# Altium integrated library Linear Technology PMIC-Switching Reg LTC1174-LTC3901.IntLib: 2647 symbols (part 88 of 310)
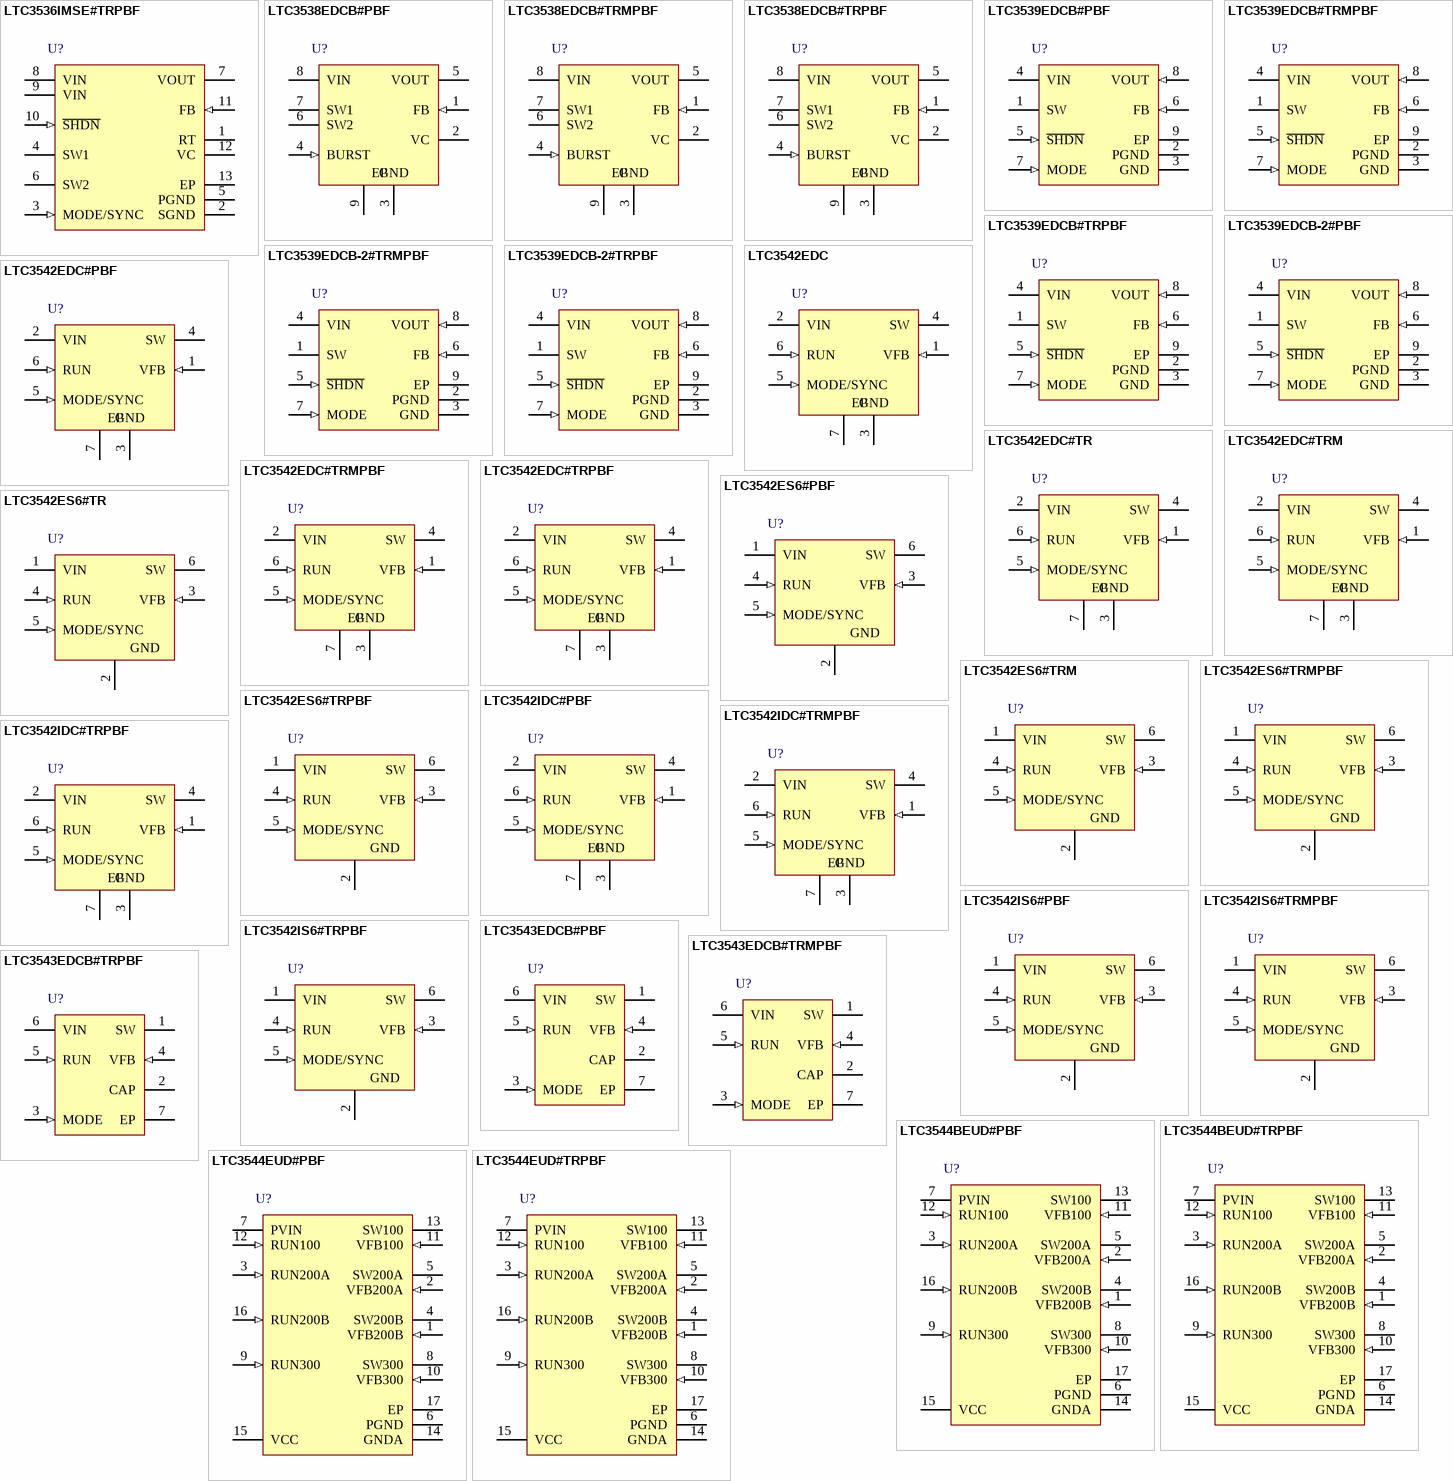
[diagram p165: symbols LTC3536IMSE#TRPBF to LTC3544EUD#TRPBF]

## LTC3542EDC#PBF
designator U?
500 mA, 2.25 MHz Synchronous Step-Down DC/DC Converter, 6-pin SON (DC6-6), -40 to 85 degC, Pb-Free; Manufacturer: Linear Technology; PartNumber: LTC3542EDC#PBF; Number of Outputs: 1; PackageReference: DC6-6; PackageDescription: 6-Pin Plastic DFN, Body 2 x 2 mm, Pitch 0.5 mm; Supplier 1: Farnell; Supplier Part Number 1: 2308147; RoHS: TRUE; Code_JEDEC: MO-229
footprint LT-DC6-6_V (SON, 6-Leads, Body 2x2mm, Pitch 0.5mm, Thermal Pad 1.42x0.61mm)
pins: 1 VFB (in) "Output Feedback Pin. Receives the feedback voltage from an external resistive divider across the output. Nominal voltage for this pin is 0.6V.", 2 VIN (power) "Power Supply Pin. Must be closely decoupled to GND.", 3 GND (power) "Ground Pin.", 4 SW (power) "Switch Node Connection to Inductor. This pin connects to the drains of the internal main and synchronous power MOSFET switches.", 5 MODE/SYNC (in) "Mode Selection and Oscillator Synchronization Pin. This pin controls the operation of the device. When tied to GND or VIN, Burst Mode operation or pulse skipping mode is selected, respectively. Do not float this pin. The (See Datasheet)", 6 RUN (in) "Converter Enable Pin. Forcing this pin above 1.5V enables this part, while forcing it below 0.3V causes the device to shut down. In shutdown, all functions are disabled drawing <1uA supply current. This pin must be driven; (See Datasheet)", 7 EP (power) "Exposed Pad. The Exposed Pad is ground. It must be soldered to PCB ground to provide both electrical contact and optimum thermal performance."

## LTC3542EDC#TR
designator U?
500 mA, 2.25 MHz Synchronous Step-Down DC/DC Converter, 6-pin SON (DC6-6), -40 to 85 degC, Tape and Reel; Manufacturer: Linear Technology; PartNumber: LTC3542EDC#TR; Number of Outputs: 1; PackageReference: DC6-6; PackageDescription: 6-Pin Plastic DFN, Body 2 x 2 mm, Pitch 0.5 mm; RoHS: FALSE; Code_JEDEC: MO-229
footprint LT-DC6-6_V (SON, 6-Leads, Body 2x2mm, Pitch 0.5mm, Thermal Pad 1.42x0.61mm)
pins: 1 VFB (in) "Output Feedback Pin. Receives the feedback voltage from an external resistive divider across the output. Nominal voltage for this pin is 0.6V.", 2 VIN (power) "Power Supply Pin. Must be closely decoupled to GND.", 3 GND (power) "Ground Pin.", 4 SW (power) "Switch Node Connection to Inductor. This pin connects to the drains of the internal main and synchronous power MOSFET switches.", 5 MODE/SYNC (in) "Mode Selection and Oscillator Synchronization Pin. This pin controls the operation of the device. When tied to GND or VIN, Burst Mode operation or pulse skipping mode is selected, respectively. Do not float this pin. The (See Datasheet)", 6 RUN (in) "Converter Enable Pin. Forcing this pin above 1.5V enables this part, while forcing it below 0.3V causes the device to shut down. In shutdown, all functions are disabled drawing <1uA supply current. This pin must be driven; (See Datasheet)", 7 EP (power) "Exposed Pad. The Exposed Pad is ground. It must be soldered to PCB ground to provide both electrical contact and optimum thermal performance."

## LTC3542EDC#TRM
designator U?
500 mA, 2.25 MHz Synchronous Step-Down DC/DC Converter, 6-pin SON (DC6-6), -40 to 85 degC, Mini Tape and Reel; Manufacturer: Linear Technology; PartNumber: LTC3542EDC#TRM; Number of Outputs: 1; PackageReference: DC6-6; PackageDescription: 6-Pin Plastic DFN, Body 2 x 2 mm, Pitch 0.5 mm; RoHS: FALSE; Code_JEDEC: MO-229
footprint LT-DC6-6_V (SON, 6-Leads, Body 2x2mm, Pitch 0.5mm, Thermal Pad 1.42x0.61mm)
pins: 1 VFB (in) "Output Feedback Pin. Receives the feedback voltage from an external resistive divider across the output. Nominal voltage for this pin is 0.6V.", 2 VIN (power) "Power Supply Pin. Must be closely decoupled to GND.", 3 GND (power) "Ground Pin.", 4 SW (power) "Switch Node Connection to Inductor. This pin connects to the drains of the internal main and synchronous power MOSFET switches.", 5 MODE/SYNC (in) "Mode Selection and Oscillator Synchronization Pin. This pin controls the operation of the device. When tied to GND or VIN, Burst Mode operation or pulse skipping mode is selected, respectively. Do not float this pin. The (See Datasheet)", 6 RUN (in) "Converter Enable Pin. Forcing this pin above 1.5V enables this part, while forcing it below 0.3V causes the device to shut down. In shutdown, all functions are disabled drawing <1uA supply current. This pin must be driven; (See Datasheet)", 7 EP (power) "Exposed Pad. The Exposed Pad is ground. It must be soldered to PCB ground to provide both electrical contact and optimum thermal performance."

## LTC3542EDC#TRMPBF
designator U?
500 mA, 2.25 MHz Synchronous Step-Down DC/DC Converter, 6-pin SON (DC6-6), -40 to 85 degC, Pb-Free, Mini Tape and Reel; Manufacturer: Linear Technology; PartNumber: LTC3542EDC#TRMPBF; Number of Outputs: 1; PackageReference: DC6-6; PackageDescription: 6-Pin Plastic DFN, Body 2 x 2 mm, Pitch 0.5 mm; Supplier 1: Digi-Key; Supplier Part Number 1: LTC3542EDC#TRMPBFTR-ND; RoHS: TRUE; Code_JEDEC: MO-229
footprint LT-DC6-6_V (SON, 6-Leads, Body 2x2mm, Pitch 0.5mm, Thermal Pad 1.42x0.61mm)
pins: 1 VFB (in) "Output Feedback Pin. Receives the feedback voltage from an external resistive divider across the output. Nominal voltage for this pin is 0.6V.", 2 VIN (power) "Power Supply Pin. Must be closely decoupled to GND.", 3 GND (power) "Ground Pin.", 4 SW (power) "Switch Node Connection to Inductor. This pin connects to the drains of the internal main and synchronous power MOSFET switches.", 5 MODE/SYNC (in) "Mode Selection and Oscillator Synchronization Pin. This pin controls the operation of the device. When tied to GND or VIN, Burst Mode operation or pulse skipping mode is selected, respectively. Do not float this pin. The (See Datasheet)", 6 RUN (in) "Converter Enable Pin. Forcing this pin above 1.5V enables this part, while forcing it below 0.3V causes the device to shut down. In shutdown, all functions are disabled drawing <1uA supply current. This pin must be driven; (See Datasheet)", 7 EP (power) "Exposed Pad. The Exposed Pad is ground. It must be soldered to PCB ground to provide both electrical contact and optimum thermal performance."

## LTC3542EDC#TRPBF
designator U?
500 mA, 2.25 MHz Synchronous Step-Down DC/DC Converter, 6-pin SON (DC6-6), -40 to 85 degC, Pb-Free, Tape and Reel; Manufacturer: Linear Technology; PartNumber: LTC3542EDC#TRPBF; Number of Outputs: 1; PackageReference: DC6-6; PackageDescription: 6-Pin Plastic DFN, Body 2 x 2 mm, Pitch 0.5 mm; Supplier 1: Digi-Key; Supplier Part Number 1: LTC3542EDC#TRPBF-ND; RoHS: TRUE; Code_JEDEC: MO-229
footprint LT-DC6-6_V (SON, 6-Leads, Body 2x2mm, Pitch 0.5mm, Thermal Pad 1.42x0.61mm)
pins: 1 VFB (in) "Output Feedback Pin. Receives the feedback voltage from an external resistive divider across the output. Nominal voltage for this pin is 0.6V.", 2 VIN (power) "Power Supply Pin. Must be closely decoupled to GND.", 3 GND (power) "Ground Pin.", 4 SW (power) "Switch Node Connection to Inductor. This pin connects to the drains of the internal main and synchronous power MOSFET switches.", 5 MODE/SYNC (in) "Mode Selection and Oscillator Synchronization Pin. This pin controls the operation of the device. When tied to GND or VIN, Burst Mode operation or pulse skipping mode is selected, respectively. Do not float this pin. The (See Datasheet)", 6 RUN (in) "Converter Enable Pin. Forcing this pin above 1.5V enables this part, while forcing it below 0.3V causes the device to shut down. In shutdown, all functions are disabled drawing <1uA supply current. This pin must be driven; (See Datasheet)", 7 EP (power) "Exposed Pad. The Exposed Pad is ground. It must be soldered to PCB ground to provide both electrical contact and optimum thermal performance."

## LTC3542ES6#PBF
designator U?
500 mA, 2.25 MHz Synchronous Step-Down DC/DC Converter, 6-pin SOT23 (S6-6), -40 to 85 degC, Pb-Free; Manufacturer: Linear Technology; PartNumber: LTC3542ES6#PBF; Number of Outputs: 1; PackageReference: S6-6; PackageDescription: 6-Pin Plastic TSOT-23, Body 2.9 x 1.63 mm, Pitch 0.95 mm; Supplier 1: Farnell; Supplier Part Number 1: 2308148; RoHS: TRUE; Code_JEDEC: MO-193
footprint LT-S6-6-TSOT-23_N (SOT23, 6-Leads, Body 2.9x1.75mm, Pitch 0.95mm, IPC Medium Density)
footprint LT-S6-6-TSOT-23_L (SOT23, 6-Leads, Body 2.9x1.75mm, Pitch 0.95mm, IPC High Density)
footprint LT-S6-6-TSOT-23_M (SOT23, 6-Leads, Body 2.9x1.75mm, Pitch 0.95mm, IPC Low Density)
pins: 1 VIN (power) "Power Supply Pin. Must be closely decoupled to GND.", 2 GND (power) "Ground Pin.", 3 VFB (in) "Output Feedback Pin. Receives the feedback voltage from an external resistive divider across the output. Nominal voltage for this pin is 0.6V.", 4 RUN (in) "Converter Enable Pin. Forcing this pin above 1.5V enables this part, while forcing it below 0.3V causes the device to shut down. In shutdown, all functions are disabled drawing <1uA supply current. This pin must be driven; (See Datasheet)", 5 MODE/SYNC (in) "Mode Selection and Oscillator Synchronization Pin. This pin controls the operation of the device. When tied to GND or VIN, Burst Mode operation or pulse skipping mode is selected, respectively. Do not float this pin. The (See Datasheet)", 6 SW (power) "Switch Node Connection to Inductor. This pin connects to the drains of the internal main and synchronous power MOSFET switches."

## LTC3542ES6#TR
designator U?
500 mA, 2.25 MHz Synchronous Step-Down DC/DC Converter, 6-pin SOT23 (S6-6), -40 to 85 degC, Tape and Reel; Manufacturer: Linear Technology; PartNumber: LTC3542ES6#TR; Number of Outputs: 1; PackageReference: S6-6; PackageDescription: 6-Pin Plastic TSOT-23, Body 2.9 x 1.63 mm, Pitch 0.95 mm; RoHS: FALSE; Code_JEDEC: MO-193
footprint LT-S6-6-TSOT-23_N (SOT23, 6-Leads, Body 2.9x1.75mm, Pitch 0.95mm, IPC Medium Density)
footprint LT-S6-6-TSOT-23_L (SOT23, 6-Leads, Body 2.9x1.75mm, Pitch 0.95mm, IPC High Density)
footprint LT-S6-6-TSOT-23_M (SOT23, 6-Leads, Body 2.9x1.75mm, Pitch 0.95mm, IPC Low Density)
pins: 1 VIN (power) "Power Supply Pin. Must be closely decoupled to GND.", 2 GND (power) "Ground Pin.", 3 VFB (in) "Output Feedback Pin. Receives the feedback voltage from an external resistive divider across the output. Nominal voltage for this pin is 0.6V.", 4 RUN (in) "Converter Enable Pin. Forcing this pin above 1.5V enables this part, while forcing it below 0.3V causes the device to shut down. In shutdown, all functions are disabled drawing <1uA supply current. This pin must be driven; (See Datasheet)", 5 MODE/SYNC (in) "Mode Selection and Oscillator Synchronization Pin. This pin controls the operation of the device. When tied to GND or VIN, Burst Mode operation or pulse skipping mode is selected, respectively. Do not float this pin. The (See Datasheet)", 6 SW (power) "Switch Node Connection to Inductor. This pin connects to the drains of the internal main and synchronous power MOSFET switches."

## LTC3542ES6#TRM
designator U?
500 mA, 2.25 MHz Synchronous Step-Down DC/DC Converter, 6-pin SOT23 (S6-6), -40 to 85 degC, Mini Tape and Reel; Manufacturer: Linear Technology; PartNumber: LTC3542ES6#TRM; Number of Outputs: 1; PackageReference: S6-6; PackageDescription: 6-Pin Plastic TSOT-23, Body 2.9 x 1.63 mm, Pitch 0.95 mm; RoHS: FALSE; Code_JEDEC: MO-193
footprint LT-S6-6-TSOT-23_N (SOT23, 6-Leads, Body 2.9x1.75mm, Pitch 0.95mm, IPC Medium Density)
footprint LT-S6-6-TSOT-23_L (SOT23, 6-Leads, Body 2.9x1.75mm, Pitch 0.95mm, IPC High Density)
footprint LT-S6-6-TSOT-23_M (SOT23, 6-Leads, Body 2.9x1.75mm, Pitch 0.95mm, IPC Low Density)
pins: 1 VIN (power) "Power Supply Pin. Must be closely decoupled to GND.", 2 GND (power) "Ground Pin.", 3 VFB (in) "Output Feedback Pin. Receives the feedback voltage from an external resistive divider across the output. Nominal voltage for this pin is 0.6V.", 4 RUN (in) "Converter Enable Pin. Forcing this pin above 1.5V enables this part, while forcing it below 0.3V causes the device to shut down. In shutdown, all functions are disabled drawing <1uA supply current. This pin must be driven; (See Datasheet)", 5 MODE/SYNC (in) "Mode Selection and Oscillator Synchronization Pin. This pin controls the operation of the device. When tied to GND or VIN, Burst Mode operation or pulse skipping mode is selected, respectively. Do not float this pin. The (See Datasheet)", 6 SW (power) "Switch Node Connection to Inductor. This pin connects to the drains of the internal main and synchronous power MOSFET switches."

## LTC3542ES6#TRMPBF
designator U?
500 mA, 2.25 MHz Synchronous Step-Down DC/DC Converter, 6-pin SOT23 (S6-6), -40 to 85 degC, Pb-Free, Mini Tape and Reel; Manufacturer: Linear Technology; PartNumber: LTC3542ES6#TRMPBF; Number of Outputs: 1; PackageReference: S6-6; PackageDescription: 6-Pin Plastic TSOT-23, Body 2.9 x 1.63 mm, Pitch 0.95 mm; Supplier 1: Digi-Key; Supplier Part Number 1: LTC3542ES6#TRMPBFTR-ND; RoHS: TRUE; Code_JEDEC: MO-193
footprint LT-S6-6-TSOT-23_N (SOT23, 6-Leads, Body 2.9x1.75mm, Pitch 0.95mm, IPC Medium Density)
footprint LT-S6-6-TSOT-23_L (SOT23, 6-Leads, Body 2.9x1.75mm, Pitch 0.95mm, IPC High Density)
footprint LT-S6-6-TSOT-23_M (SOT23, 6-Leads, Body 2.9x1.75mm, Pitch 0.95mm, IPC Low Density)
pins: 1 VIN (power) "Power Supply Pin. Must be closely decoupled to GND.", 2 GND (power) "Ground Pin.", 3 VFB (in) "Output Feedback Pin. Receives the feedback voltage from an external resistive divider across the output. Nominal voltage for this pin is 0.6V.", 4 RUN (in) "Converter Enable Pin. Forcing this pin above 1.5V enables this part, while forcing it below 0.3V causes the device to shut down. In shutdown, all functions are disabled drawing <1uA supply current. This pin must be driven; (See Datasheet)", 5 MODE/SYNC (in) "Mode Selection and Oscillator Synchronization Pin. This pin controls the operation of the device. When tied to GND or VIN, Burst Mode operation or pulse skipping mode is selected, respectively. Do not float this pin. The (See Datasheet)", 6 SW (power) "Switch Node Connection to Inductor. This pin connects to the drains of the internal main and synchronous power MOSFET switches."

## LTC3542ES6#TRPBF
designator U?
500 mA, 2.25 MHz Synchronous Step-Down DC/DC Converter, 6-pin SOT23 (S6-6), -40 to 85 degC, Pb-Free, Tape and Reel; Manufacturer: Linear Technology; PartNumber: LTC3542ES6#TRPBF; Number of Outputs: 1; PackageReference: S6-6; PackageDescription: 6-Pin Plastic TSOT-23, Body 2.9 x 1.63 mm, Pitch 0.95 mm; Supplier 1: Digi-Key; Supplier Part Number 1: LTC3542ES6#TRPBF-ND; RoHS: TRUE; Code_JEDEC: MO-193
footprint LT-S6-6-TSOT-23_N (SOT23, 6-Leads, Body 2.9x1.75mm, Pitch 0.95mm, IPC Medium Density)
footprint LT-S6-6-TSOT-23_L (SOT23, 6-Leads, Body 2.9x1.75mm, Pitch 0.95mm, IPC High Density)
footprint LT-S6-6-TSOT-23_M (SOT23, 6-Leads, Body 2.9x1.75mm, Pitch 0.95mm, IPC Low Density)
pins: 1 VIN (power) "Power Supply Pin. Must be closely decoupled to GND.", 2 GND (power) "Ground Pin.", 3 VFB (in) "Output Feedback Pin. Receives the feedback voltage from an external resistive divider across the output. Nominal voltage for this pin is 0.6V.", 4 RUN (in) "Converter Enable Pin. Forcing this pin above 1.5V enables this part, while forcing it below 0.3V causes the device to shut down. In shutdown, all functions are disabled drawing <1uA supply current. This pin must be driven; (See Datasheet)", 5 MODE/SYNC (in) "Mode Selection and Oscillator Synchronization Pin. This pin controls the operation of the device. When tied to GND or VIN, Burst Mode operation or pulse skipping mode is selected, respectively. Do not float this pin. The (See Datasheet)", 6 SW (power) "Switch Node Connection to Inductor. This pin connects to the drains of the internal main and synchronous power MOSFET switches."

## LTC3542IDC#PBF
designator U?
500 mA, 2.25 MHz Synchronous Step-Down DC/DC Converter, 6-pin SON (DC6-6), -40 to 125 degC, Pb-Free; Manufacturer: Linear Technology; PartNumber: LTC3542IDC#PBF; Number of Outputs: 1; PackageReference: DC6-6; PackageDescription: 6-Pin Plastic DFN, Body 2 x 2 mm, Pitch 0.5 mm; Supplier 1: Newark; Supplier Part Number 1: 78T3205; RoHS: TRUE; Code_JEDEC: MO-229
footprint LT-DC6-6_V (SON, 6-Leads, Body 2x2mm, Pitch 0.5mm, Thermal Pad 1.42x0.61mm)
pins: 1 VFB (in) "Output Feedback Pin. Receives the feedback voltage from an external resistive divider across the output. Nominal voltage for this pin is 0.6V.", 2 VIN (power) "Power Supply Pin. Must be closely decoupled to GND.", 3 GND (power) "Ground Pin.", 4 SW (power) "Switch Node Connection to Inductor. This pin connects to the drains of the internal main and synchronous power MOSFET switches.", 5 MODE/SYNC (in) "Mode Selection and Oscillator Synchronization Pin. This pin controls the operation of the device. When tied to GND or VIN, Burst Mode operation or pulse skipping mode is selected, respectively. Do not float this pin. The (See Datasheet)", 6 RUN (in) "Converter Enable Pin. Forcing this pin above 1.5V enables this part, while forcing it below 0.3V causes the device to shut down. In shutdown, all functions are disabled drawing <1uA supply current. This pin must be driven; (See Datasheet)", 7 EP (power) "Exposed Pad. The Exposed Pad is ground. It must be soldered to PCB ground to provide both electrical contact and optimum thermal performance."

## LTC3542IDC#TRMPBF
designator U?
500 mA, 2.25 MHz Synchronous Step-Down DC/DC Converter, 6-pin SON (DC6-6), -40 to 125 degC, Pb-Free, Mini Tape and Reel; Manufacturer: Linear Technology; PartNumber: LTC3542IDC#TRMPBF; Number of Outputs: 1; PackageReference: DC6-6; PackageDescription: 6-Pin Plastic DFN, Body 2 x 2 mm, Pitch 0.5 mm; Supplier 1: Digi-Key; Supplier Part Number 1: LTC3542IDC#TRMPBF-ND; RoHS: TRUE; Code_JEDEC: MO-229
footprint LT-DC6-6_V (SON, 6-Leads, Body 2x2mm, Pitch 0.5mm, Thermal Pad 1.42x0.61mm)
pins: 1 VFB (in) "Output Feedback Pin. Receives the feedback voltage from an external resistive divider across the output. Nominal voltage for this pin is 0.6V.", 2 VIN (power) "Power Supply Pin. Must be closely decoupled to GND.", 3 GND (power) "Ground Pin.", 4 SW (power) "Switch Node Connection to Inductor. This pin connects to the drains of the internal main and synchronous power MOSFET switches.", 5 MODE/SYNC (in) "Mode Selection and Oscillator Synchronization Pin. This pin controls the operation of the device. When tied to GND or VIN, Burst Mode operation or pulse skipping mode is selected, respectively. Do not float this pin. The (See Datasheet)", 6 RUN (in) "Converter Enable Pin. Forcing this pin above 1.5V enables this part, while forcing it below 0.3V causes the device to shut down. In shutdown, all functions are disabled drawing <1uA supply current. This pin must be driven; (See Datasheet)", 7 EP (power) "Exposed Pad. The Exposed Pad is ground. It must be soldered to PCB ground to provide both electrical contact and optimum thermal performance."

## LTC3542IDC#TRPBF
designator U?
500 mA, 2.25 MHz Synchronous Step-Down DC/DC Converter, 6-pin SON (DC6-6), -40 to 125 degC, Pb-Free, Tape and Reel; Manufacturer: Linear Technology; PartNumber: LTC3542IDC#TRPBF; Number of Outputs: 1; PackageReference: DC6-6; PackageDescription: 6-Pin Plastic DFN, Body 2 x 2 mm, Pitch 0.5 mm; Supplier 1: Digi-Key; Supplier Part Number 1: LTC3542IDC#TRPBF-ND; RoHS: TRUE; Code_JEDEC: MO-229
footprint LT-DC6-6_V (SON, 6-Leads, Body 2x2mm, Pitch 0.5mm, Thermal Pad 1.42x0.61mm)
pins: 1 VFB (in) "Output Feedback Pin. Receives the feedback voltage from an external resistive divider across the output. Nominal voltage for this pin is 0.6V.", 2 VIN (power) "Power Supply Pin. Must be closely decoupled to GND.", 3 GND (power) "Ground Pin.", 4 SW (power) "Switch Node Connection to Inductor. This pin connects to the drains of the internal main and synchronous power MOSFET switches.", 5 MODE/SYNC (in) "Mode Selection and Oscillator Synchronization Pin. This pin controls the operation of the device. When tied to GND or VIN, Burst Mode operation or pulse skipping mode is selected, respectively. Do not float this pin. The (See Datasheet)", 6 RUN (in) "Converter Enable Pin. Forcing this pin above 1.5V enables this part, while forcing it below 0.3V causes the device to shut down. In shutdown, all functions are disabled drawing <1uA supply current. This pin must be driven; (See Datasheet)", 7 EP (power) "Exposed Pad. The Exposed Pad is ground. It must be soldered to PCB ground to provide both electrical contact and optimum thermal performance."

## LTC3542IS6#PBF
designator U?
500 mA, 2.25 MHz Synchronous Step-Down DC/DC Converter, 6-pin SOT23 (S6-6), -40 to 125 degC, Pb-Free; Manufacturer: Linear Technology; PartNumber: LTC3542IS6#PBF; Number of Outputs: 1; PackageReference: S6-6; PackageDescription: 6-Pin Plastic TSOT-23, Body 2.9 x 1.63 mm, Pitch 0.95 mm; RoHS: TRUE; Code_JEDEC: MO-193
footprint LT-S6-6-TSOT-23_N (SOT23, 6-Leads, Body 2.9x1.75mm, Pitch 0.95mm, IPC Medium Density)
footprint LT-S6-6-TSOT-23_L (SOT23, 6-Leads, Body 2.9x1.75mm, Pitch 0.95mm, IPC High Density)
footprint LT-S6-6-TSOT-23_M (SOT23, 6-Leads, Body 2.9x1.75mm, Pitch 0.95mm, IPC Low Density)
pins: 1 VIN (power) "Power Supply Pin. Must be closely decoupled to GND.", 2 GND (power) "Ground Pin.", 3 VFB (in) "Output Feedback Pin. Receives the feedback voltage from an external resistive divider across the output. Nominal voltage for this pin is 0.6V.", 4 RUN (in) "Converter Enable Pin. Forcing this pin above 1.5V enables this part, while forcing it below 0.3V causes the device to shut down. In shutdown, all functions are disabled drawing <1uA supply current. This pin must be driven; (See Datasheet)", 5 MODE/SYNC (in) "Mode Selection and Oscillator Synchronization Pin. This pin controls the operation of the device. When tied to GND or VIN, Burst Mode operation or pulse skipping mode is selected, respectively. Do not float this pin. The (See Datasheet)", 6 SW (power) "Switch Node Connection to Inductor. This pin connects to the drains of the internal main and synchronous power MOSFET switches."

## LTC3542IS6#TRMPBF
designator U?
500 mA, 2.25 MHz Synchronous Step-Down DC/DC Converter, 6-pin SOT23 (S6-6), -40 to 125 degC, Pb-Free, Mini Tape and Reel; Manufacturer: Linear Technology; PartNumber: LTC3542IS6#TRMPBF; Number of Outputs: 1; PackageReference: S6-6; PackageDescription: 6-Pin Plastic TSOT-23, Body 2.9 x 1.63 mm, Pitch 0.95 mm; Supplier 1: Digi-Key; Supplier Part Number 1: LTC3542IS6#TRMPBF-ND; RoHS: TRUE; Code_JEDEC: MO-193
footprint LT-S6-6-TSOT-23_N (SOT23, 6-Leads, Body 2.9x1.75mm, Pitch 0.95mm, IPC Medium Density)
footprint LT-S6-6-TSOT-23_L (SOT23, 6-Leads, Body 2.9x1.75mm, Pitch 0.95mm, IPC High Density)
footprint LT-S6-6-TSOT-23_M (SOT23, 6-Leads, Body 2.9x1.75mm, Pitch 0.95mm, IPC Low Density)
pins: 1 VIN (power) "Power Supply Pin. Must be closely decoupled to GND.", 2 GND (power) "Ground Pin.", 3 VFB (in) "Output Feedback Pin. Receives the feedback voltage from an external resistive divider across the output. Nominal voltage for this pin is 0.6V.", 4 RUN (in) "Converter Enable Pin. Forcing this pin above 1.5V enables this part, while forcing it below 0.3V causes the device to shut down. In shutdown, all functions are disabled drawing <1uA supply current. This pin must be driven; (See Datasheet)", 5 MODE/SYNC (in) "Mode Selection and Oscillator Synchronization Pin. This pin controls the operation of the device. When tied to GND or VIN, Burst Mode operation or pulse skipping mode is selected, respectively. Do not float this pin. The (See Datasheet)", 6 SW (power) "Switch Node Connection to Inductor. This pin connects to the drains of the internal main and synchronous power MOSFET switches."

## LTC3542IS6#TRPBF
designator U?
500 mA, 2.25 MHz Synchronous Step-Down DC/DC Converter, 6-pin SOT23 (S6-6), -40 to 125 degC, Pb-Free, Tape and Reel; Manufacturer: Linear Technology; PartNumber: LTC3542IS6#TRPBF; Number of Outputs: 1; PackageReference: S6-6; PackageDescription: 6-Pin Plastic TSOT-23, Body 2.9 x 1.63 mm, Pitch 0.95 mm; Supplier 1: Digi-Key; Supplier Part Number 1: LTC3542IS6#TRPBF-ND; RoHS: TRUE; Code_JEDEC: MO-193
footprint LT-S6-6-TSOT-23_N (SOT23, 6-Leads, Body 2.9x1.75mm, Pitch 0.95mm, IPC Medium Density)
footprint LT-S6-6-TSOT-23_L (SOT23, 6-Leads, Body 2.9x1.75mm, Pitch 0.95mm, IPC High Density)
footprint LT-S6-6-TSOT-23_M (SOT23, 6-Leads, Body 2.9x1.75mm, Pitch 0.95mm, IPC Low Density)
pins: 1 VIN (power) "Power Supply Pin. Must be closely decoupled to GND.", 2 GND (power) "Ground Pin.", 3 VFB (in) "Output Feedback Pin. Receives the feedback voltage from an external resistive divider across the output. Nominal voltage for this pin is 0.6V.", 4 RUN (in) "Converter Enable Pin. Forcing this pin above 1.5V enables this part, while forcing it below 0.3V causes the device to shut down. In shutdown, all functions are disabled drawing <1uA supply current. This pin must be driven; (See Datasheet)", 5 MODE/SYNC (in) "Mode Selection and Oscillator Synchronization Pin. This pin controls the operation of the device. When tied to GND or VIN, Burst Mode operation or pulse skipping mode is selected, respectively. Do not float this pin. The (See Datasheet)", 6 SW (power) "Switch Node Connection to Inductor. This pin connects to the drains of the internal main and synchronous power MOSFET switches."

## LTC3543EDCB#PBF
designator U?
600 mA Synchronous Step Down Buck Regulator with PLL, Soft-Start and Spread Spectrum, 6-pin SON (DCB-6), -40 to 85 degC, Pb-Free; Manufacturer: Linear Technology; PartNumber: LTC3543EDCB#PBF; Number of Outputs: 1; PackageReference: DCB-6; PackageDescription: 6-Pin Plastic DFN, Body 2 x 3 mm, Pitch 0.5 mm; Supplier 1: Farnell; Supplier Part Number 1: 1329363; RoHS: TRUE; Code_JEDEC: MO-229
footprint LT-DCB-6_V (SON, 6-Leads, Body 3x2mm, Pitch 0.5mm, Thermal Pad 1.65x1.35mm)
pins: 1 SW (power) "Switch Node Connector to Inductor. This pin connects to the drains of the internal main and synchronous power MOSFET switches.", 2 CAP "Capacitor used for smoothing out spread spectrum or for PLL response. Connect to a capacitor whose other plate is connected to GND, or allow the pin to float. Value = 1nF - 10nF.", 3 MODE (in) "Mode Selection Pin.", 4 VFB (in) "Feedback sensing pin for the external feedback resistors.", 5 RUN (in) "Run Control Input. Forcing pin above 1.5V enables the part. Forcing the pin below 0.3V shuts down the device. In shutdown, all functions are disabled, drawing <1uA of supply current. Do not leave the RUN pin floating.", 6 VIN (power) "Main Supply Pin.", 7 EP (power) "Exposed Pad connected to ground."

## LTC3543EDCB#TRMPBF
designator U?
600 mA Synchronous Step Down Buck Regulator with PLL, Soft-Start and Spread Spectrum, 6-pin SON (DCB-6), -40 to 85 degC, Pb-Free, Mini Tape and Reel; Manufacturer: Linear Technology; PartNumber: LTC3543EDCB#TRMPBF; Number of Outputs: 1; PackageReference: DCB-6; PackageDescription: 6-Pin Plastic DFN, Body 2 x 3 mm, Pitch 0.5 mm; Supplier 1: Digi-Key; Supplier Part Number 1: LTC3543EDCB#TRMPBF-ND; RoHS: TRUE; Code_JEDEC: MO-229
footprint LT-DCB-6_V (SON, 6-Leads, Body 3x2mm, Pitch 0.5mm, Thermal Pad 1.65x1.35mm)
pins: 1 SW (power) "Switch Node Connector to Inductor. This pin connects to the drains of the internal main and synchronous power MOSFET switches.", 2 CAP "Capacitor used for smoothing out spread spectrum or for PLL response. Connect to a capacitor whose other plate is connected to GND, or allow the pin to float. Value = 1nF - 10nF.", 3 MODE (in) "Mode Selection Pin.", 4 VFB (in) "Feedback sensing pin for the external feedback resistors.", 5 RUN (in) "Run Control Input. Forcing pin above 1.5V enables the part. Forcing the pin below 0.3V shuts down the device. In shutdown, all functions are disabled, drawing <1uA of supply current. Do not leave the RUN pin floating.", 6 VIN (power) "Main Supply Pin.", 7 EP (power) "Exposed Pad connected to ground."

## LTC3543EDCB#TRPBF
designator U?
600 mA Synchronous Step Down Buck Regulator with PLL, Soft-Start and Spread Spectrum, 6-pin SON (DCB-6), -40 to 85 degC, Pb-Free, Tape and Reel; Manufacturer: Linear Technology; PartNumber: LTC3543EDCB#TRPBF; Number of Outputs: 1; PackageReference: DCB-6; PackageDescription: 6-Pin Plastic DFN, Body 2 x 3 mm, Pitch 0.5 mm; Supplier 1: Digi-Key; Supplier Part Number 1: LTC3543EDCB#TRPBF-ND; RoHS: TRUE; Code_JEDEC: MO-229
footprint LT-DCB-6_V (SON, 6-Leads, Body 3x2mm, Pitch 0.5mm, Thermal Pad 1.65x1.35mm)
pins: 1 SW (power) "Switch Node Connector to Inductor. This pin connects to the drains of the internal main and synchronous power MOSFET switches.", 2 CAP "Capacitor used for smoothing out spread spectrum or for PLL response. Connect to a capacitor whose other plate is connected to GND, or allow the pin to float. Value = 1nF - 10nF.", 3 MODE (in) "Mode Selection Pin.", 4 VFB (in) "Feedback sensing pin for the external feedback resistors.", 5 RUN (in) "Run Control Input. Forcing pin above 1.5V enables the part. Forcing the pin below 0.3V shuts down the device. In shutdown, all functions are disabled, drawing <1uA of supply current. Do not leave the RUN pin floating.", 6 VIN (power) "Main Supply Pin.", 7 EP (power) "Exposed Pad connected to ground."

## LTC3544BEUD#PBF
designator U?
Quad Synchronous Step-Down Regulator: 2.25 MHz, 300 mA, 200 mA, 200 mA, 100 mA, 16-pin QFN (UD-16), -40 to 85 degC, Pb-Free; Manufacturer: Linear Technology; PartNumber: LTC3544BEUD#PBF; Number of Outputs: 4; PackageReference: UD-16; PackageDescription: 16-Pin Plastic QFN, Body 3 x 3 mm, Pitch 0.5 mm; Supplier 1: Digi-Key; Supplier Part Number 1: LTC3544BEUD#PBF-ND; RoHS: TRUE; Code_JEDEC: MO-220
footprint LT-UD-16_N (QFN, 16-Leads, Body 3x3mm, Pitch 0.5mm, Thermal Pad 1.45x1.45mm, IPC Medium Density)
footprint LT-UD-16_L (QFN, 16-Leads, Body 3x3mm, Pitch 0.5mm, Thermal Pad 1.45x1.45mm, IPC High Density)
footprint LT-UD-16_M (QFN, 16-Leads, Body 3x3mm, Pitch 0.5mm, Thermal Pad 1.45x1.45mm, IPC Low Density)
pins: 1 VFB200B (in) "200mA Regulator B Feedback Pin. This pin receives the feedback voltage from an external resistive divider across the output", 2 VFB200A (in) "200mA Regulator A Feedback Pin. This pin receives the feedback voltage from an external resistive divider across the output.", 3 RUN200A (in) "200mA Regulator A Enable Pin. Forcing this pin to VIN enables the 200mA regulator (channel A), while forcing it to GND causes the regulator to shut off", 4 SW200B (power) "Switch Node Connection to Inductor for 200mA Regulator B. This pin connects to the drains of the internal power MOSFET switches", 5 SW200A (power) "Switch Node Connection to Inductor for 200mA Regulator A. This pin connects to the drains of the internal power MOSFET switches.", 6 PGND (power) "Power Path Return Pin for Both 200mA Regulators and the 300mA Regulator", 7 PVIN (power) "Power Path Supply Pin for Both 200mA Regulators and the 300mA Regulator. This pin must be closely decoupled to PGND, with a 4.7uF or greater ceramic capacitor.", 8 SW300 (power) "Switch Node Connection to Inductor for 300mA Regulator. This pin connects to the drains of the internal power MOSFET switches", 9 RUN300 (in) "300mA Regulator Enable Pin. Forcing this pin to VIN enables the 300mA regulator, while forcing it to GND causes the regulator to shut off.", 10 VFB300 (in) "300mA Regulator Feedback Pin. This pin receives the feedback voltage from an external resistive divider across the output.", 11 VFB100 (in) "100mA Regulator Feedback Pin. This pin receives the feedback voltage from an external resistive divider across the output.", 12 RUN100 (in) "100mA Regulator Enable Pin. Forcing this pin to VIN enables the 100mA regulator, while forcing it to GND causes the 100mA regulator to shut off.", 13 SW100 (power) "Switch Node Connection to Inductor for 100mA Regulator. This pin connects to the drains of the internal power MOSFET switches.", 14 GNDA (power) "Ground Pin for Internal Reference and Control Circuitry. Power path return for the 100mA regulator", 15 VCC (power) "Supply Pin for Internal Reference and Control Circuitry. Power path supply pin for the 100mA regulator.", 16 RUN200B (in) "200mA Regulator B Enable Pin. Forcing this pin to VIN enables the 200mA regulator (channel B), while forcing it to GND causes the regulator to shut off.", 17 EP (power) "Ground. Must be soldered to PCB"

## LTC3544BEUD#TRPBF
designator U?
Quad Synchronous Step-Down Regulator: 2.25 MHz, 300 mA, 200 mA, 200 mA, 100 mA, 16-pin QFN (UD-16), -40 to 85 degC, Pb-Free, Tape and Reel; Manufacturer: Linear Technology; PartNumber: LTC3544BEUD#TRPBF; Number of Outputs: 4; PackageReference: UD-16; PackageDescription: 16-Pin Plastic QFN, Body 3 x 3 mm, Pitch 0.5 mm; Supplier 1: Digi-Key; Supplier Part Number 1: LTC3544BEUD#TRPBF-ND; RoHS: TRUE; Code_JEDEC: MO-220
footprint LT-UD-16_N (QFN, 16-Leads, Body 3x3mm, Pitch 0.5mm, Thermal Pad 1.45x1.45mm, IPC Medium Density)
footprint LT-UD-16_L (QFN, 16-Leads, Body 3x3mm, Pitch 0.5mm, Thermal Pad 1.45x1.45mm, IPC High Density)
footprint LT-UD-16_M (QFN, 16-Leads, Body 3x3mm, Pitch 0.5mm, Thermal Pad 1.45x1.45mm, IPC Low Density)
pins: 1 VFB200B (in) "200mA Regulator B Feedback Pin. This pin receives the feedback voltage from an external resistive divider across the output", 2 VFB200A (in) "200mA Regulator A Feedback Pin. This pin receives the feedback voltage from an external resistive divider across the output.", 3 RUN200A (in) "200mA Regulator A Enable Pin. Forcing this pin to VIN enables the 200mA regulator (channel A), while forcing it to GND causes the regulator to shut off", 4 SW200B (power) "Switch Node Connection to Inductor for 200mA Regulator B. This pin connects to the drains of the internal power MOSFET switches", 5 SW200A (power) "Switch Node Connection to Inductor for 200mA Regulator A. This pin connects to the drains of the internal power MOSFET switches.", 6 PGND (power) "Power Path Return Pin for Both 200mA Regulators and the 300mA Regulator", 7 PVIN (power) "Power Path Supply Pin for Both 200mA Regulators and the 300mA Regulator. This pin must be closely decoupled to PGND, with a 4.7uF or greater ceramic capacitor.", 8 SW300 (power) "Switch Node Connection to Inductor for 300mA Regulator. This pin connects to the drains of the internal power MOSFET switches", 9 RUN300 (in) "300mA Regulator Enable Pin. Forcing this pin to VIN enables the 300mA regulator, while forcing it to GND causes the regulator to shut off.", 10 VFB300 (in) "300mA Regulator Feedback Pin. This pin receives the feedback voltage from an external resistive divider across the output.", 11 VFB100 (in) "100mA Regulator Feedback Pin. This pin receives the feedback voltage from an external resistive divider across the output.", 12 RUN100 (in) "100mA Regulator Enable Pin. Forcing this pin to VIN enables the 100mA regulator, while forcing it to GND causes the 100mA regulator to shut off.", 13 SW100 (power) "Switch Node Connection to Inductor for 100mA Regulator. This pin connects to the drains of the internal power MOSFET switches.", 14 GNDA (power) "Ground Pin for Internal Reference and Control Circuitry. Power path return for the 100mA regulator", 15 VCC (power) "Supply Pin for Internal Reference and Control Circuitry. Power path supply pin for the 100mA regulator.", 16 RUN200B (in) "200mA Regulator B Enable Pin. Forcing this pin to VIN enables the 200mA regulator (channel B), while forcing it to GND causes the regulator to shut off.", 17 EP (power) "Ground. Must be soldered to PCB"

## LTC3544EUD#PBF
designator U?
Quad Synchronous Step-Down Regulator: 2.25 MHz, 300 mA, 200 mA, 200 mA, 100 mA, 16-pin QFN (UD-16), -40 to 85 degC, Pb-Free; Manufacturer: Linear Technology; PartNumber: LTC3544EUD#PBF; Number of Outputs: 4; PackageReference: UD-16; PackageDescription: 16-Pin Plastic QFN, Body 3 x 3 mm, Pitch 0.5 mm; Supplier 1: Digi-Key; Supplier Part Number 1: LTC3544EUD#PBF-ND; RoHS: TRUE; Code_JEDEC: MO-220
footprint LT-UD-16_N (QFN, 16-Leads, Body 3x3mm, Pitch 0.5mm, Thermal Pad 1.45x1.45mm, IPC Medium Density)
footprint LT-UD-16_L (QFN, 16-Leads, Body 3x3mm, Pitch 0.5mm, Thermal Pad 1.45x1.45mm, IPC High Density)
footprint LT-UD-16_M (QFN, 16-Leads, Body 3x3mm, Pitch 0.5mm, Thermal Pad 1.45x1.45mm, IPC Low Density)
pins: 1 VFB200B (in) "200mA Regulator B Feedback Pin. This pin receives the feedback voltage from an external resistive divider across the output", 2 VFB200A (in) "200mA Regulator A Feedback Pin. This pin receives the feedback voltage from an external resistive divider across the output.", 3 RUN200A (in) "200mA Regulator A Enable Pin. Forcing this pin to VIN enables the 200mA regulator (channel A), while forcing it to GND causes the regulator to shut off", 4 SW200B (power) "Switch Node Connection to Inductor for 200mA Regulator B. This pin connects to the drains of the internal power MOSFET switches", 5 SW200A (power) "Switch Node Connection to Inductor for 200mA Regulator A. This pin connects to the drains of the internal power MOSFET switches.", 6 PGND (power) "Power Path Return Pin for Both 200mA Regulators and the 300mA Regulator", 7 PVIN (power) "Power Path Supply Pin for Both 200mA Regulators and the 300mA Regulator. This pin must be closely decoupled to PGND, with a 4.7uF or greater ceramic capacitor.", 8 SW300 (power) "Switch Node Connection to Inductor for 300mA Regulator. This pin connects to the drains of the internal power MOSFET switches", 9 RUN300 (in) "300mA Regulator Enable Pin. Forcing this pin to VIN enables the 300mA regulator, while forcing it to GND causes the regulator to shut off.", 10 VFB300 (in) "300mA Regulator Feedback Pin. This pin receives the feedback voltage from an external resistive divider across the output.", 11 VFB100 (in) "100mA Regulator Feedback Pin. This pin receives the feedback voltage from an external resistive divider across the output.", 12 RUN100 (in) "100mA Regulator Enable Pin. Forcing this pin to VIN enables the 100mA regulator, while forcing it to GND causes the 100mA regulator to shut off.", 13 SW100 (power) "Switch Node Connection to Inductor for 100mA Regulator. This pin connects to the drains of the internal power MOSFET switches.", 14 GNDA (power) "Ground Pin for Internal Reference and Control Circuitry. Power path return for the 100mA regulator", 15 VCC (power) "Supply Pin for Internal Reference and Control Circuitry. Power path supply pin for the 100mA regulator.", 16 RUN200B (in) "200mA Regulator B Enable Pin. Forcing this pin to VIN enables the 200mA regulator (channel B), while forcing it to GND causes the regulator to shut off.", 17 EP (power) "Ground. Must be soldered to PCB"

## LTC3544EUD#TRPBF
designator U?
Quad Synchronous Step-Down Regulator: 2.25 MHz, 300 mA, 200 mA, 200 mA, 100 mA, 16-pin QFN (UD-16), -40 to 85 degC, Pb-Free, Tape and Reel; Manufacturer: Linear Technology; PartNumber: LTC3544EUD#TRPBF; Number of Outputs: 4; PackageReference: UD-16; PackageDescription: 16-Pin Plastic QFN, Body 3 x 3 mm, Pitch 0.5 mm; Supplier 1: Digi-Key; Supplier Part Number 1: LTC3544EUD#TRPBF-ND; RoHS: TRUE; Code_JEDEC: MO-220
footprint LT-UD-16_N (QFN, 16-Leads, Body 3x3mm, Pitch 0.5mm, Thermal Pad 1.45x1.45mm, IPC Medium Density)
footprint LT-UD-16_L (QFN, 16-Leads, Body 3x3mm, Pitch 0.5mm, Thermal Pad 1.45x1.45mm, IPC High Density)
footprint LT-UD-16_M (QFN, 16-Leads, Body 3x3mm, Pitch 0.5mm, Thermal Pad 1.45x1.45mm, IPC Low Density)
pins: 1 VFB200B (in) "200mA Regulator B Feedback Pin. This pin receives the feedback voltage from an external resistive divider across the output", 2 VFB200A (in) "200mA Regulator A Feedback Pin. This pin receives the feedback voltage from an external resistive divider across the output.", 3 RUN200A (in) "200mA Regulator A Enable Pin. Forcing this pin to VIN enables the 200mA regulator (channel A), while forcing it to GND causes the regulator to shut off", 4 SW200B (power) "Switch Node Connection to Inductor for 200mA Regulator B. This pin connects to the drains of the internal power MOSFET switches", 5 SW200A (power) "Switch Node Connection to Inductor for 200mA Regulator A. This pin connects to the drains of the internal power MOSFET switches.", 6 PGND (power) "Power Path Return Pin for Both 200mA Regulators and the 300mA Regulator", 7 PVIN (power) "Power Path Supply Pin for Both 200mA Regulators and the 300mA Regulator. This pin must be closely decoupled to PGND, with a 4.7uF or greater ceramic capacitor.", 8 SW300 (power) "Switch Node Connection to Inductor for 300mA Regulator. This pin connects to the drains of the internal power MOSFET switches", 9 RUN300 (in) "300mA Regulator Enable Pin. Forcing this pin to VIN enables the 300mA regulator, while forcing it to GND causes the regulator to shut off.", 10 VFB300 (in) "300mA Regulator Feedback Pin. This pin receives the feedback voltage from an external resistive divider across the output.", 11 VFB100 (in) "100mA Regulator Feedback Pin. This pin receives the feedback voltage from an external resistive divider across the output.", 12 RUN100 (in) "100mA Regulator Enable Pin. Forcing this pin to VIN enables the 100mA regulator, while forcing it to GND causes the 100mA regulator to shut off.", 13 SW100 (power) "Switch Node Connection to Inductor for 100mA Regulator. This pin connects to the drains of the internal power MOSFET switches.", 14 GNDA (power) "Ground Pin for Internal Reference and Control Circuitry. Power path return for the 100mA regulator", 15 VCC (power) "Supply Pin for Internal Reference and Control Circuitry. Power path supply pin for the 100mA regulator.", 16 RUN200B (in) "200mA Regulator B Enable Pin. Forcing this pin to VIN enables the 200mA regulator (channel B), while forcing it to GND causes the regulator to shut off.", 17 EP (power) "Ground. Must be soldered to PCB"

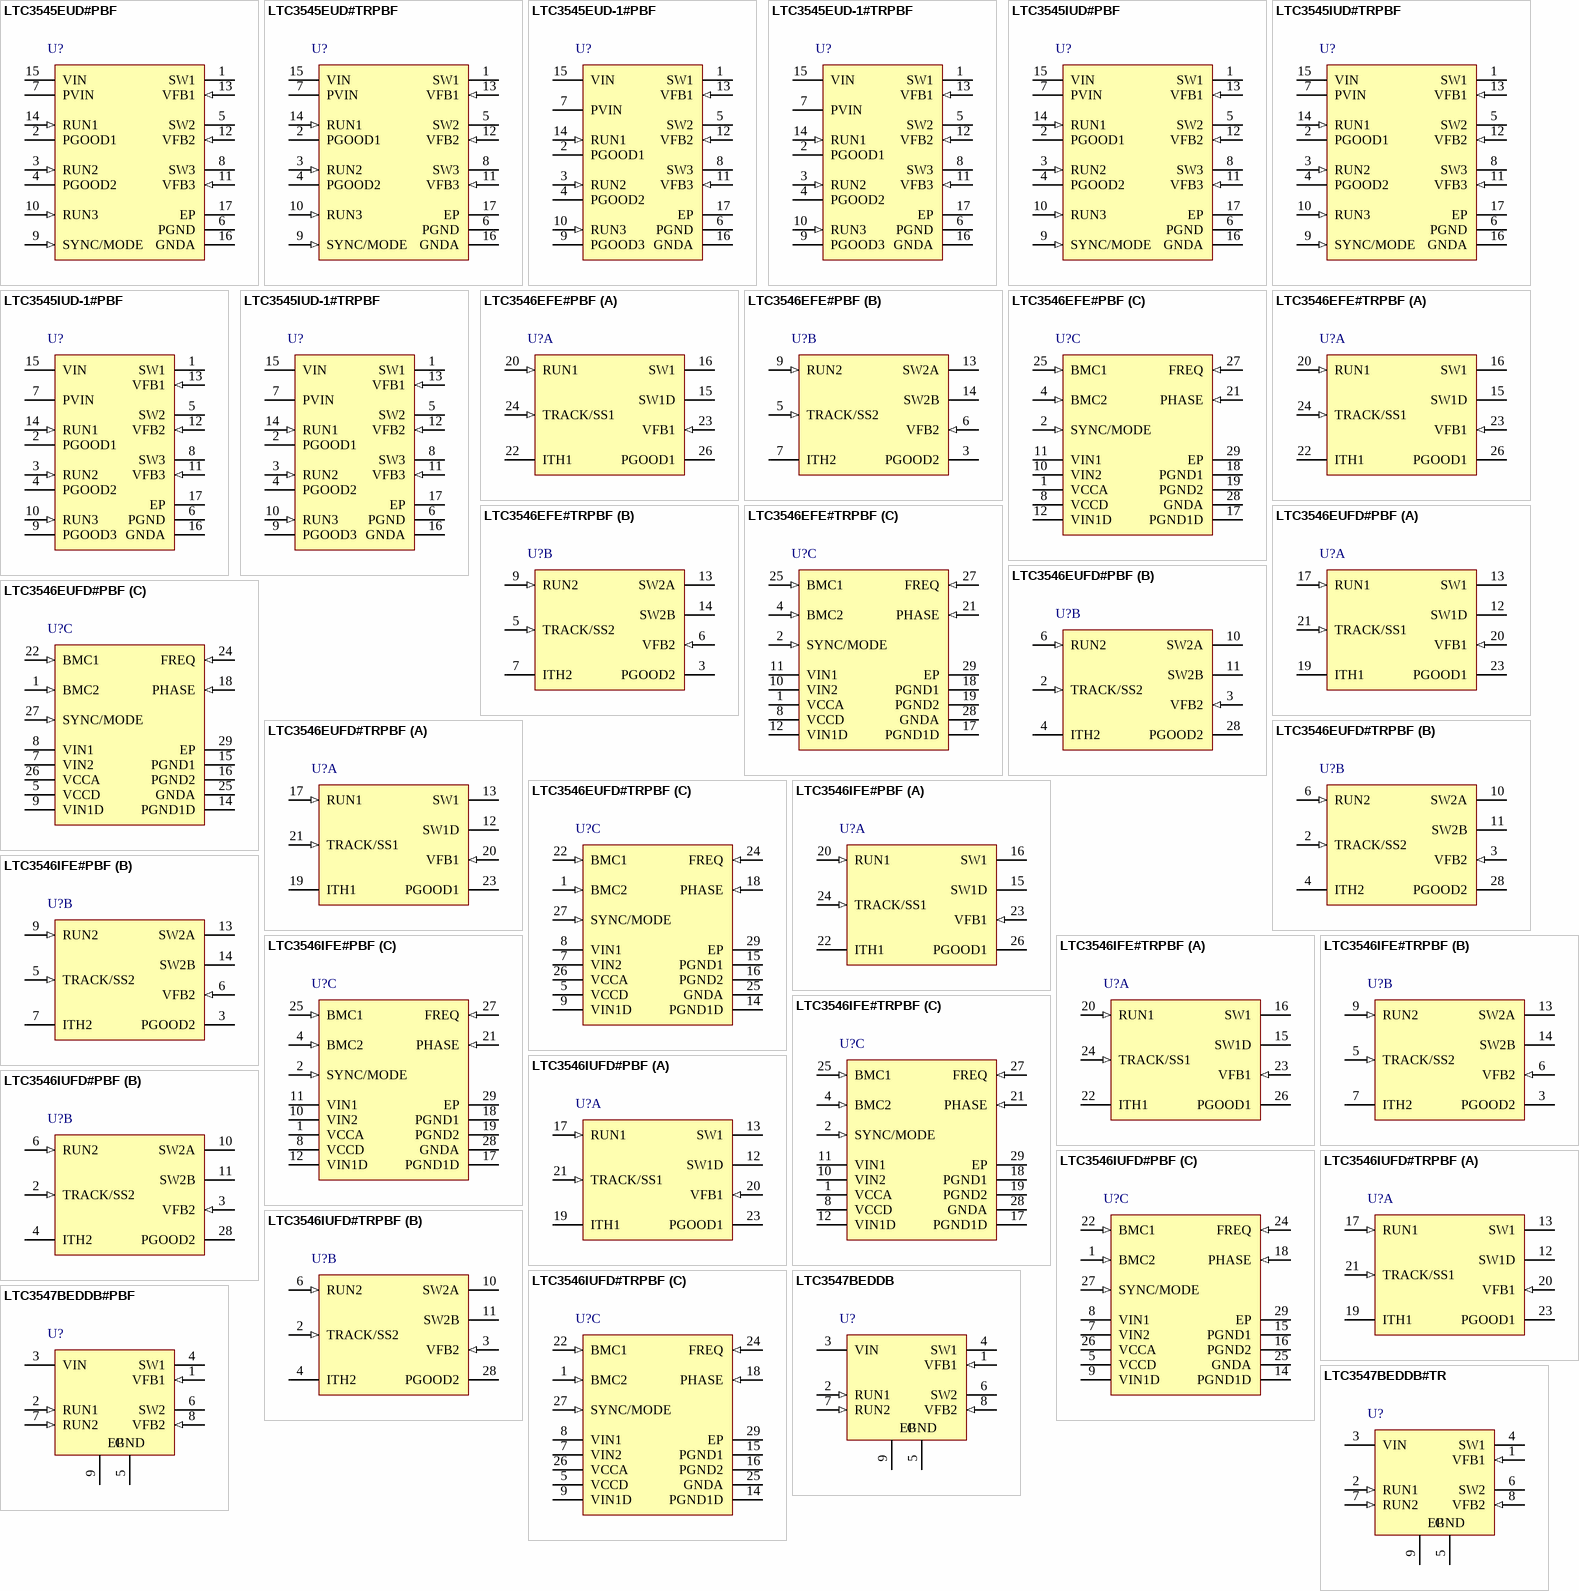
[diagram p32: symbols LTC3545EUD#PBF to LTC3547BEDDB#TR]

## LTC3545EUD#PBF
designator U?
Triple 800 mA Synchronous Step-Down Regulator - 2.25 MHz, 16-pin QFN (UD-16-EPV-AA), -40 to 125 degC, Pb-Free; Manufacturer: Linear Technology; PartNumber: LTC3545EUD#PBF; Number of Outputs: 3; PackageReference: UD-16; PackageDescription: 16-Pin Plastic QFN, Body 3 x 3 mm, Pitch 0.5 mm; Supplier 1: Digi-Key; Supplier Part Number 1: LTC3545EUD#PBF-ND; RoHS: TRUE; Code_JEDEC: MO-220
footprint LT-UD-16-EPV-AA_N (QFN, 16-Leads, Body 3.1x3.1mm, Pitch 0.5mm, Thermal Pad 1.65x1.65mm, IPC Medium Density)
footprint LT-UD-16-EPV-AA_L (QFN, 16-Leads, Body 3.1x3.1mm, Pitch 0.5mm, Thermal Pad 1.65x1.65mm, IPC High Density)
footprint LT-UD-16-EPV-AA_M (QFN, 16-Leads, Body 3.1x3.1mm, Pitch 0.5mm, Thermal Pad 1.65x1.65mm, IPC Low Density)
pins: 1 SW1 (power) "Switch Node Connection to Inductor for Regulator 1. This pin connects to the internal power MOSFET switches.", 2 PGOOD1 (oc) "This open-drain output voltage is pulled to a logic low when VFB1 is below 0.54V (VOUT1 is below 90% of regulated level).", 3 RUN2 (in) "Regulator 2 Enable Pin. Apply a voltage greater than VRUN(HIGH) to enable this regulator", 4 PGOOD2 (oc) "This open-drain output voltage is pulled to a logic low when VFB2 is below 0.54V (VOUT2 is below 90% of regulated level).", 5 SW2 (power) "Switch Node Connection to Inductor for Regulator 2. This pin connects to the internal power MOSFET switches.", 6 PGND (power) "Regulators 2 and 3 Power Path Return.", 7 PVIN (power) "Power Path Supply Pin for Regulators 2 and 3. This pin must be closely decoupled to PGND, with a 4.7uF or greater ceramic capacitor.", 8 SW3 (power) "Switch Node Connection to Inductor for Regulator 3. This pin connects to the internal power MOSFET switches.", 9 SYNC/MODE (in) "This open-Mode Select and External Clock Input. When pulled low, part operates in Burst Mode operation. When pulled high, part operates in pulse skipping mode. When driven by a 1MHz to 3MHz external clock, the part operates (See Datasheet)", 10 RUN3 (in) "Regulator 3 Enable Pin. Apply a voltage greater than VRUN(HIGH) to enable this regulator", 11 VFB3 (in) "Regulator 3 Feedback Pin. This pin receives the feedback voltage from an external resistive divider across the output.", 12 VFB2 (in) "Regulator 2 Feedback Pin. This pin receives the feedback voltage from an external resistive divider across the output.", 13 VFB1 (in) "Regulator 1 Feedback Pin. This pin receives the feedback voltage from an external resistive divider across the output.", 14 RUN1 (in) "Regulator 1 Enable Pin. Apply a voltage greater than VRUN(HIGH) to enable this regulator", 15 VIN (power) "Supply Pin for Internal Reference and Control Circuitry. Power path supply for regulator 1.", 16 GNDA (power) "Ground Pin for Internal Reference and Control Circuitry. Power path return for regulator 1.", 17 EP (power) "GND. Must be soldered to the PCB."

## LTC3545EUD#TRPBF
designator U?
Triple 800 mA Synchronous Step-Down Regulator - 2.25 MHz, 16-pin QFN (UD-16-EPV-AA), -40 to 125 degC, Pb-Free, Tape and Reel; Manufacturer: Linear Technology; PartNumber: LTC3545EUD#TRPBF; Number of Outputs: 3; PackageReference: UD-16; PackageDescription: 16-Pin Plastic QFN, Body 3 x 3 mm, Pitch 0.5 mm; Supplier 1: Digi-Key; Supplier Part Number 1: LTC3545EUD#TRPBF-ND; RoHS: TRUE; Code_JEDEC: MO-220
footprint LT-UD-16-EPV-AA_N (QFN, 16-Leads, Body 3.1x3.1mm, Pitch 0.5mm, Thermal Pad 1.65x1.65mm, IPC Medium Density)
footprint LT-UD-16-EPV-AA_L (QFN, 16-Leads, Body 3.1x3.1mm, Pitch 0.5mm, Thermal Pad 1.65x1.65mm, IPC High Density)
footprint LT-UD-16-EPV-AA_M (QFN, 16-Leads, Body 3.1x3.1mm, Pitch 0.5mm, Thermal Pad 1.65x1.65mm, IPC Low Density)
pins: 1 SW1 (power) "Switch Node Connection to Inductor for Regulator 1. This pin connects to the internal power MOSFET switches.", 2 PGOOD1 (oc) "This open-drain output voltage is pulled to a logic low when VFB1 is below 0.54V (VOUT1 is below 90% of regulated level).", 3 RUN2 (in) "Regulator 2 Enable Pin. Apply a voltage greater than VRUN(HIGH) to enable this regulator", 4 PGOOD2 (oc) "This open-drain output voltage is pulled to a logic low when VFB2 is below 0.54V (VOUT2 is below 90% of regulated level).", 5 SW2 (power) "Switch Node Connection to Inductor for Regulator 2. This pin connects to the internal power MOSFET switches.", 6 PGND (power) "Regulators 2 and 3 Power Path Return.", 7 PVIN (power) "Power Path Supply Pin for Regulators 2 and 3. This pin must be closely decoupled to PGND, with a 4.7uF or greater ceramic capacitor.", 8 SW3 (power) "Switch Node Connection to Inductor for Regulator 3. This pin connects to the internal power MOSFET switches.", 9 SYNC/MODE (in) "This open-Mode Select and External Clock Input. When pulled low, part operates in Burst Mode operation. When pulled high, part operates in pulse skipping mode. When driven by a 1MHz to 3MHz external clock, the part operates (See Datasheet)", 10 RUN3 (in) "Regulator 3 Enable Pin. Apply a voltage greater than VRUN(HIGH) to enable this regulator", 11 VFB3 (in) "Regulator 3 Feedback Pin. This pin receives the feedback voltage from an external resistive divider across the output.", 12 VFB2 (in) "Regulator 2 Feedback Pin. This pin receives the feedback voltage from an external resistive divider across the output.", 13 VFB1 (in) "Regulator 1 Feedback Pin. This pin receives the feedback voltage from an external resistive divider across the output.", 14 RUN1 (in) "Regulator 1 Enable Pin. Apply a voltage greater than VRUN(HIGH) to enable this regulator", 15 VIN (power) "Supply Pin for Internal Reference and Control Circuitry. Power path supply for regulator 1.", 16 GNDA (power) "Ground Pin for Internal Reference and Control Circuitry. Power path return for regulator 1.", 17 EP (power) "GND. Must be soldered to the PCB."